# EAGLE library part LM5110-1M (library mosfet_drivers)
Compound Gate Driver
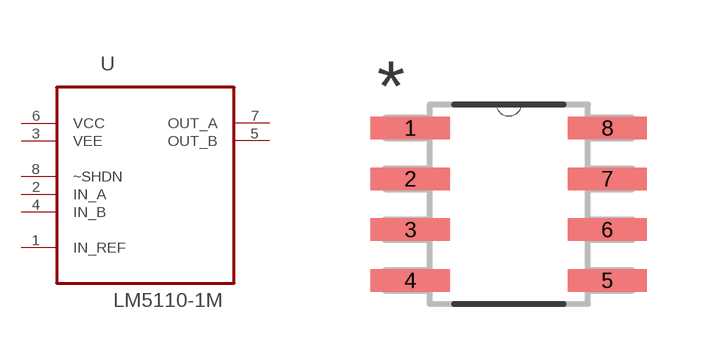
[diagram p0: symbol with the pads of SOIC127P600X175-8N; footprint SOIC127P600X175-8N]

Designator prefix U

## LM5110-1M (MPN: LM5110-1M; OC_FARNELL: 8181403; OC_NEWARK: 41K6122; PACKAGE: SOIC-8; SUPPLIER: National Semiconductor)  [SOIC127P600X175-8N]
1  IN_REF  pas
2  IN_A  in
3  VEE  pwr
4  IN_B  in
5  OUT_B  out
6  VCC  pwr
7  OUT_A  out
8  ~SHDN  in

## Footprint SOIC127P600X175-8N (pad centres in mm)
smd 1.981 x 0.559: 1 -2.464,1.905; 2 -2.464,0.635; 3 -2.464,-0.635; 4 -2.464,-1.905; 5 2.464,-1.905; 6 2.464,-0.635; 7 2.464,0.635; 8 2.464,1.905